# EAGLE library part AT90USB162-* (library at90usb)
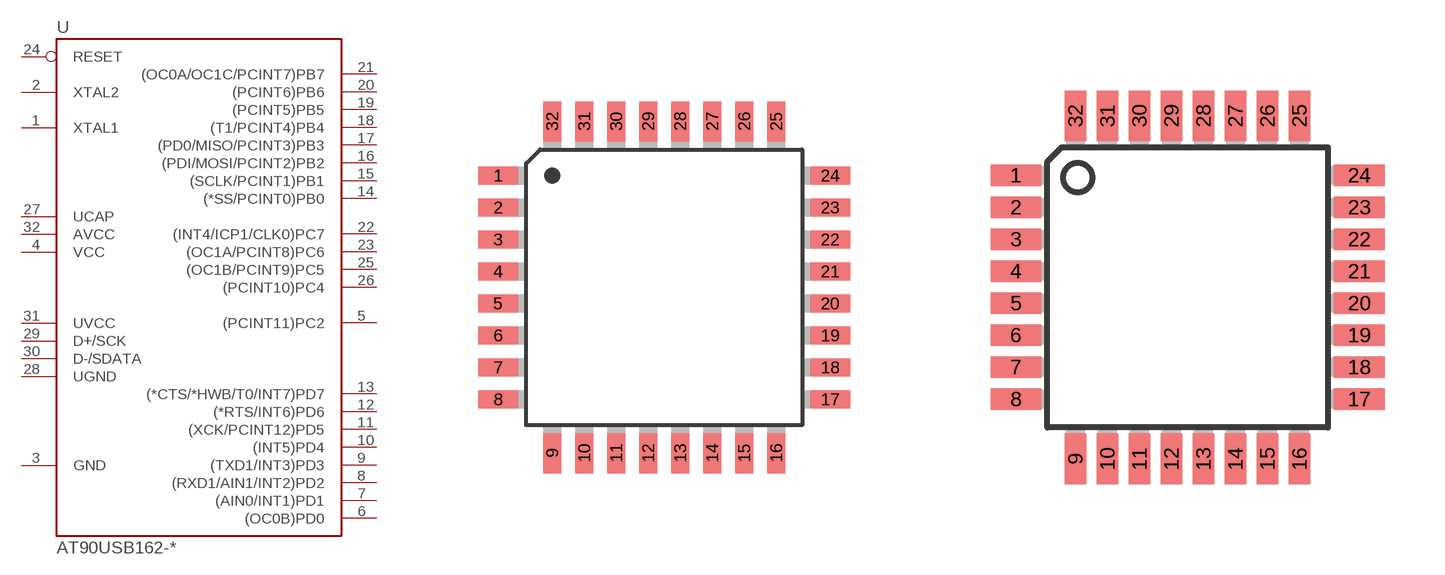
[diagram p2: symbol with the pads of VQFP32; footprints VQFP32, TQFP32-08]

Designator prefix -

## AT90USB162-VU  [VQFP32]
1  XTAL1
2  XTAL2
3  GND  pwr
4  VCC  pwr
5  (PCINT11)PC2
6  (OC0B)PD0
7  (AIN0/INT1)PD1
8  (RXD1/AIN1/INT2)PD2
9  (TXD1/INT3)PD3
10  (INT5)PD4
11  (XCK/PCINT12)PD5
12  (*RTS/INT6)PD6
13  (*CTS/*HWB/T0/INT7)PD7
14  (*SS/PCINT0)PB0
15  (SCLK/PCINT1)PB1
16  (PDI/MOSI/PCINT2)PB2
17  (PD0/MISO/PCINT3)PB3
18  (T1/PCINT4)PB4
19  (PCINT5)PB5
20  (PCINT6)PB6
21  (OC0A/OC1C/PCINT7)PB7
22  (INT4/ICP1/CLK0)PC7
23  (OC1A/PCINT8)PC6
24  RESET  in
25  (OC1B/PCINT9)PC5
26  (PCINT10)PC4
27  UCAP  pwr
28  UGND  pwr
29  D+/SCK
30  D-/SDATA
31  UVCC  pwr
32  AVCC  pwr

## AT90USB162-AU  [TQFP32-08]
Pads as for VQFP32

## Footprint VQFP32 (pad centres in mm)
smd 1 x 0.45: 1 -4.15,2.8; 2 -4.15,2; 3 -4.15,1.2; 4 -4.15,0.4; 5 -4.15,-0.4; 6 -4.15,-1.2; 7 -4.15,-2; 8 -4.15,-2.8; 17 4.15,-2.8; 18 4.15,-2; 19 4.15,-1.2; 20 4.15,-0.4; 21 4.15,0.4; 22 4.15,1.2; 23 4.15,2; 24 4.15,2.8
smd 0.45 x 1: 9 -2.8,-4.15; 10 -2,-4.15; 11 -1.2,-4.15; 12 -0.4,-4.15; 13 0.4,-4.15; 14 1.2,-4.15; 15 2,-4.15; 16 2.8,-4.15; 25 2.8,4.15; 26 2,4.15; 27 1.2,4.15; 28 0.4,4.15; 29 -0.4,4.15; 30 -1.2,4.15; 31 -2,4.15; 32 -2.8,4.15

## Footprint TQFP32-08 (pad centres in mm)
Thin Plasic Quad Flat Package Grid 0.8 mm Modified for 10mils clearance by schodet@apbteam.org.
smd 1.27 x 0.533: 1 -4.293,2.8; 2 -4.293,2; 3 -4.293,1.2; 4 -4.293,0.4; 5 -4.293,-0.4; 6 -4.293,-1.2; 7 -4.293,-2; 8 -4.293,-2.8; 17 4.293,-2.8; 18 4.293,-2; 19 4.293,-1.2; 20 4.293,-0.4; 21 4.293,0.4; 22 4.293,1.2; 23 4.293,2; 24 4.293,2.8
smd 0.533 x 1.27: 9 -2.8,-4.293; 10 -2,-4.293; 11 -1.2,-4.293; 12 -0.4,-4.293; 13 0.4,-4.293; 14 1.2,-4.293; 15 2,-4.293; 16 2.8,-4.293; 25 2.8,4.293; 26 2,4.293; 27 1.2,4.293; 28 0.4,4.293; 29 -0.4,4.293; 30 -1.2,4.293; 31 -2,4.293; 32 -2.8,4.293